# EAGLE library part 4.3"TFT (library Displays)
4.3 inch TFT LCD 480x272 Pix with resistiv touch panel
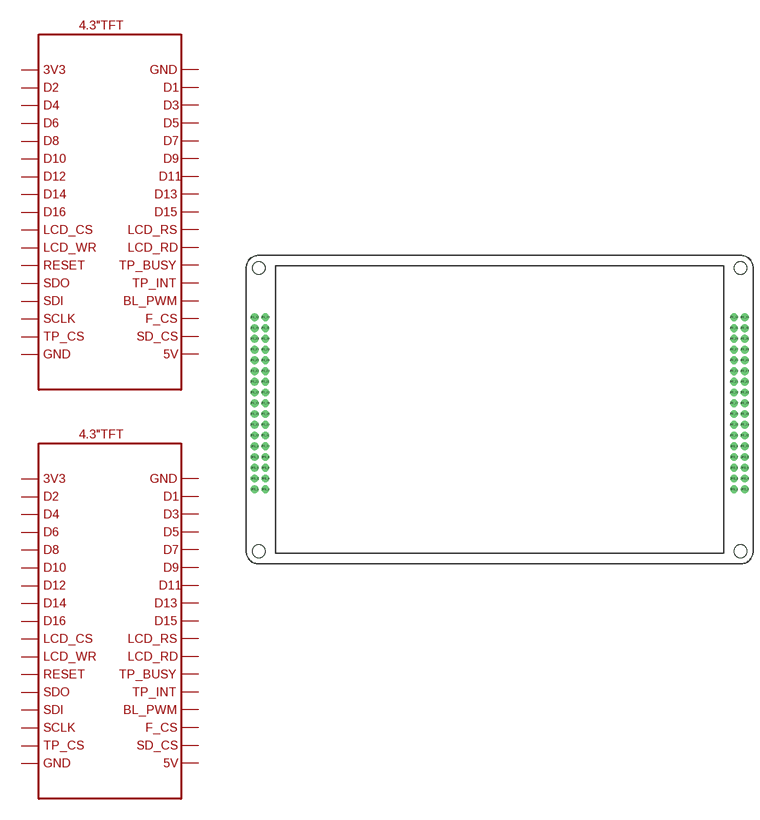
[diagram p3: symbol with the pads of 4.3TFT; footprint 4.3TFT]

Designator prefix -; gates TFT_JP1=4.3TFT-LCD TFT_JP2=4.3TFT-LCD

## 4.3"TFT  [4.3TFT]
JP1_1  TFT_JP1:P$1
JP1_2  TFT_JP1:P$2
JP1_3  TFT_JP1:P$3
JP1_4  TFT_JP1:P$4
JP1_5  TFT_JP1:P$5
JP1_6  TFT_JP1:P$6
JP1_7  TFT_JP1:P$7
JP1_8  TFT_JP1:P$8
JP1_9  TFT_JP1:P$9
JP1_10  TFT_JP1:P$10
JP1_11  TFT_JP1:P$11
JP1_12  TFT_JP1:P$12
JP1_13  TFT_JP1:P$13
JP1_14  TFT_JP1:P$14
JP1_15  TFT_JP1:P$15
JP1_16  TFT_JP1:P$16
JP1_17  TFT_JP1:P$17
JP1_18  TFT_JP1:P$18
JP1_19  TFT_JP1:P$19
JP1_20  TFT_JP1:P$20
JP1_21  TFT_JP1:P$21
JP1_22  TFT_JP1:P$22
JP1_23  TFT_JP1:P$23
JP1_24  TFT_JP1:P$24
JP1_25  TFT_JP1:P$25
JP1_26  TFT_JP1:P$26
JP1_27  TFT_JP1:P$27
JP1_28  TFT_JP1:P$28
JP1_29  TFT_JP1:P$29
JP1_30  TFT_JP1:P$30
JP1_31  TFT_JP1:P$31
JP1_32  TFT_JP1:P$32
JP1_33  TFT_JP1:P$33
JP1_34  TFT_JP1:P$34
JP2_1  TFT_JP2:P$1
JP2_2  TFT_JP2:P$2
JP2_3  TFT_JP2:P$3
JP2_4  TFT_JP2:P$4
JP2_5  TFT_JP2:P$5
JP2_6  TFT_JP2:P$6
JP2_7  TFT_JP2:P$7
JP2_8  TFT_JP2:P$8
JP2_9  TFT_JP2:P$9
JP2_10  TFT_JP2:P$10
JP2_11  TFT_JP2:P$11
JP2_12  TFT_JP2:P$12
JP2_13  TFT_JP2:P$13
JP2_14  TFT_JP2:P$14
JP2_15  TFT_JP2:P$15
JP2_16  TFT_JP2:P$16
JP2_17  TFT_JP2:P$17
JP2_18  TFT_JP2:P$18
JP2_19  TFT_JP2:P$19
JP2_20  TFT_JP2:P$20
JP2_21  TFT_JP2:P$21
JP2_22  TFT_JP2:P$22
JP2_23  TFT_JP2:P$23
JP2_24  TFT_JP2:P$24
JP2_25  TFT_JP2:P$25
JP2_26  TFT_JP2:P$26
JP2_27  TFT_JP2:P$27
JP2_28  TFT_JP2:P$28
JP2_29  TFT_JP2:P$29
JP2_30  TFT_JP2:P$30
JP2_31  TFT_JP2:P$31
JP2_32  TFT_JP2:P$32
JP2_33  TFT_JP2:P$33
JP2_34  TFT_JP2:P$34

## Footprint 4.3TFT (pad centres in mm)
drill 1 pad 1.85: JP1_1 -58,-18.82; JP1_2 -55.46,-18.82; JP1_3 -58,-16.28; JP1_4 -55.46,-16.28; JP1_5 -58,-13.74; JP1_6 -55.46,-13.74; JP1_7 -58,-11.2; JP1_8 -55.46,-11.2; JP1_9 -58,-8.66; JP1_10 -55.46,-8.66; JP1_11 -58,-6.12; JP1_12 -55.46,-6.12; JP1_13 -58,-3.58; JP1_14 -55.46,-3.58; JP1_15 -58,-1.04; JP1_16 -55.46,-1.04; JP1_17 -58,1.5; JP1_18 -55.46,1.5; JP1_19 -58,4.04; JP1_20 -55.46,4.04; JP1_21 -58,6.58; JP1_22 -55.46,6.58; JP1_23 -58,9.12; JP1_24 -55.46,9.12; JP1_25 -58,11.66; JP1_26 -55.46,11.66; JP1_27 -58,14.2; JP1_28 -55.46,14.2; JP1_29 -58,16.74; JP1_30 -55.46,16.74; JP1_31 -58,19.28; JP1_32 -55.46,19.28; JP1_33 -58,21.82; JP1_34 -55.46,21.82; JP2_1 55.46,-18.82; JP2_2 58,-18.82; JP2_3 55.46,-16.28; JP2_4 58,-16.28; JP2_5 55.46,-13.74; JP2_6 58,-13.74; JP2_7 55.46,-11.2; JP2_8 58,-11.2; JP2_9 55.46,-8.66; JP2_10 58,-8.66; JP2_11 55.46,-6.12; JP2_12 58,-6.12; JP2_13 55.46,-3.58; JP2_14 58,-3.58; JP2_15 55.46,-1.04; JP2_16 58,-1.04; JP2_17 55.46,1.5; JP2_18 58,1.5; JP2_19 55.46,4.04; JP2_20 58,4.04; JP2_21 55.46,6.58; JP2_22 58,6.58; JP2_23 55.46,9.12; JP2_24 58,9.12; JP2_25 55.46,11.66; JP2_26 58,11.66; JP2_27 55.46,14.2; JP2_28 58,14.2; JP2_29 55.46,16.74; JP2_30 58,16.74; JP2_31 55.46,19.28; JP2_32 58,19.28; JP2_33 55.46,21.82; JP2_34 58,21.82
hole 3 at -57,33.5
hole 3 at -57,-33.5
hole 3 at 57,-33.5
hole 3 at 57,33.5